# EAGLE library part TXB0104 (library PrjBlinkenlights)
TXS0108E 4-BIT BIDIRECTIONAL VOLTAGE-LEVEL TRANSLATOR WITH AUTOMATIC DIRECTION SENSING AND ±15-kV ESD PROTECTION
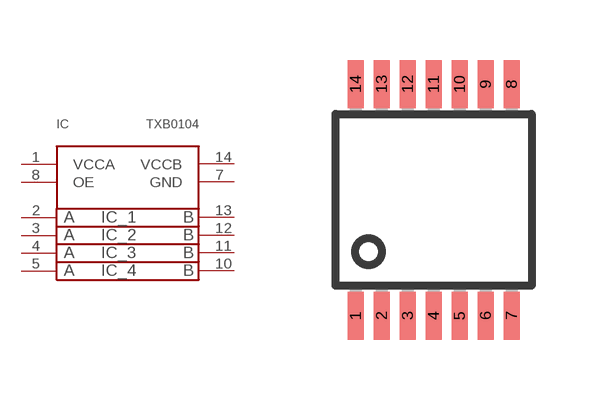
[diagram p4: symbol with the pads of R-PDSO-G14; footprint R-PDSO-G14]

Designator prefix IC; gates =TXS-COMMON _1=TXS-GATE _2=TXS-GATE _3=TXS-GATE _4=TXS-GATE

## TXB0104PW  [R-PDSO-G14]
1  :VCCA  pwr
2  _1:A
3  _2:A
4  _3:A
5  _4:A
7  :GND  pwr
8  :OE  pwr
10  _4:B
11  _3:B
12  _2:B
13  _1:B
14  :VCCB  pwr

## Footprint R-PDSO-G14 (pad centres in mm)
PLASTIC SMALL-OUTLINE PACKAGE SO 14 JEDEC MO-153 Source: www.ti.com/.. slvs087l.pdf
smd 0.4 x 1.2: 1 -1.95,-2.9; 2 -1.3,-2.9; 3 -0.65,-2.9; 4 0,-2.9; 5 0.65,-2.9; 6 1.3,-2.9; 7 1.95,-2.9; 8 1.95,2.9; 9 1.3,2.9; 10 0.65,2.9; 11 0,2.9; 12 -0.65,2.9; 13 -1.3,2.9; 14 -1.95,2.9